# Altium schematic symbol library 电感.SchLib: 2 symbols
Pins are listed as number, name and electrical type; pins without a type are passive.

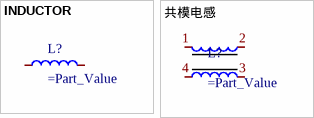
[diagram p0: symbols INDUCTOR to 共模电感]

## INDUCTOR
designator L?
pins: 1, 2

## 共模电感
designator L?
pins: 1, 2, 3, 4